# Altium schematic symbol library BW1098OBC.SchLib: 3 symbols
Pins are listed as number, name and electrical type; pins without a type are passive.

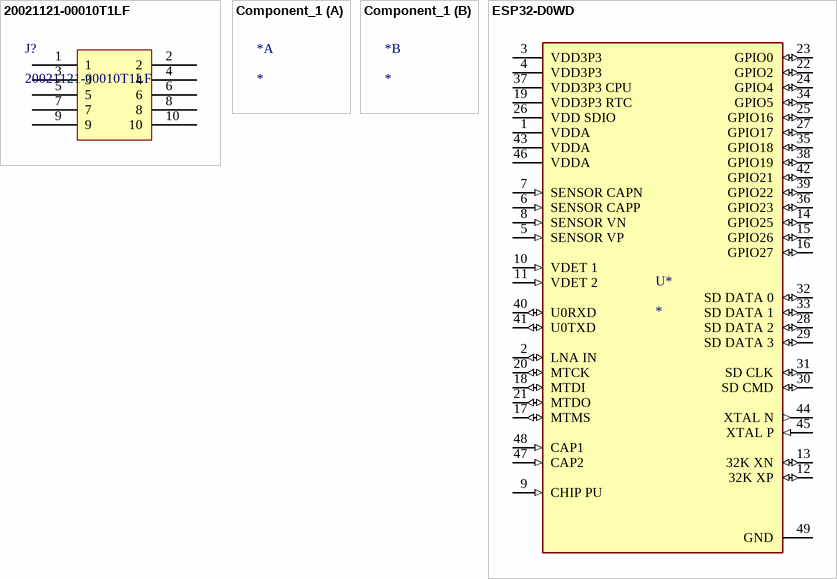
[diagram p0: symbols 20021121-00010T1LF to ESP32-D0WD]

## 20021121-00010T1LF
designator J?
CONN HEADER SMD 10POS 1.27MM; Manufacturer 1: Amphenol FCI; Number of Contacts: 10; Contact Resistance: 30mR; Max Voltage Rating (AC): 125V; Connector Type: Male Pin; Row Spacing: 0.05inch; Supplier 1: Digi-Key; Manufacturer Part Number 1: 20021121-00010T1LF; Stock 1: 1465; Pricing 1: 1=0.77000, 10=0.71800, 100=0.55040, 500=0.47860, 1000=0.39485, 5000=0.34699, 10000=0.32306 (USD); RoHS: Yes; Mount: Surface Mount; Contact Plating: Gold; Color: Black; Contact Material: Copper Alloy; Housing Color: Black; Housing Material: Thermoplastic; Min Operating Temperature: -40°C; Max Operating Temperature: 85°C; Number of Rows: 2; Termination: Solder; Package Quantity: 93; Packaging: Rail/Tube; Number of Positions: 10; Orientation: Straight; Length: 6.35mm; Pitch: 1.27mm; Contact Mating Length: 0.12inch; Depth: 3.4mm; ComponentLink1URL: https://datasheet.ciiva.com/18659/20021121-18659066.pdf?src-supplier=Digi-Key; ComponentLink1Description: https://datasheet.ciiva.com/18659/20021121-18659066.pdf?src-supplier=Digi-Key; ComponentLink2URL: https://datasheet.ciiva.com/10033/20021121-10033582.pdf?src-supplier=Avnet; ComponentLink2Description: https://datasheet.ciiva.com/10033/20021121-10033582.pdf?src-supplier=Avnet; Supplier Part Number 1: 609-6529-ND
footprint 20021121-00010T1LF (Connector Header Surface Mount 10 position 0.050" (1.27mm)   Contact length: 0.120" (3.05mm))
pins: 1, 2, 3, 4, 5, 6, 7, 8, 9, 10

## Component_1
designator *

## ESP32-D0WD
designator U*
SMD IC ESP32-D0WD, Dual Core Mcu, Wifi & Bluetooth Combo, QFN48-PIN, 5*5MM; Manufacturer: Espressif Systems; Frequency: 2.4GHz; Data Rate: 150Mbps; Interface: I2C,SPI,UART; Sensitivity: -98dBm; Memory Size: 520KB; Current - Receiving: 100mA; Current - Transmitting: 240mA; Number of GPIO: 34; Supplier 1: Digi-Key; Manufacturer Part Number: ESP32-D0WD; RoHS: No; Stock 1: 6655; Pricing 1: 1=3.00000 (USD); Min Operating Temperature: -40°C; Max Operating Temperature: 125°C; Packaging: Tape and Reel; ComponentLink1URL: http://espressif.com/sites/default/files/documentation/esp32_datasheet_en.pdf?src-supplier=Digi-Key; ComponentLink1Description: http://espressif.com/sites/default/files/documentation/esp32_datasheet_en.pdf?src-supplier=Digi-Key; Supplier Part Number 1: 1904-1003-1-ND
footprint FP-ESP32-D0WD-IPC_A
pins: 1 VDDA (power), 2 LNA IN (io), 3 VDD3P3 (power), 4 VDD3P3 (power), 5 SENSOR VP (in), 6 SENSOR CAPP (in), 7 SENSOR CAPN (in), 8 SENSOR VN (in), 9 CHIP PU (in), 10 VDET 1 (in), 11 VDET 2 (in), 12 32K XP (io), 13 32K XN (io), 14 GPIO25 (io), 15 GPIO26 (io), 16 GPIO27 (io), 17 MTMS (io), 18 MTDI (io), 19 VDD3P3 RTC (power), 20 MTCK (io), 21 MTDO (io), 22 GPIO2 (io), 23 GPIO0 (io), 24 GPIO4 (io), 25 GPIO16 (io), 26 VDD SDIO (power), 27 GPIO17 (io), 28 SD DATA 2 (io), 29 SD DATA 3 (io), 30 SD CMD (io), 31 SD CLK (io), 32 SD DATA 0 (io), 33 SD DATA 1 (io), 34 GPIO5 (io), 35 GPIO18 (io), 36 GPIO23 (io), 37 VDD3P3 CPU (power), 38 GPIO19 (io), 39 GPIO22 (io), 40 U0RXD (io), 41 U0TXD (io), 42 GPIO21 (io), 43 VDDA (power), 44 XTAL N (out), 45 XTAL P (in), 46 VDDA (power), 47 CAP2 (in), 48 CAP1 (in), 49 GND (power)